# Altium schematic symbol library SENSOR.SchLib: 1 symbol
Pins are listed as number, name and electrical type; pins without a type are passive.

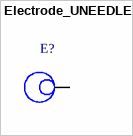
[diagram p0: symbol Electrode_UNEEDLE]

## Electrode_UNEEDLE
designator E?, comment Part Number  (value not drawn)
Microneedle electrode - 23 microneedle per electrode. 2.5 mm diameter; GRAMS Lib Spec: 2.7
pins: 1